# Altium integrated library TI Power Management Switching Regulator Charge Pump (Inductorless).IntLib: 239 symbols (part 3 of 14)
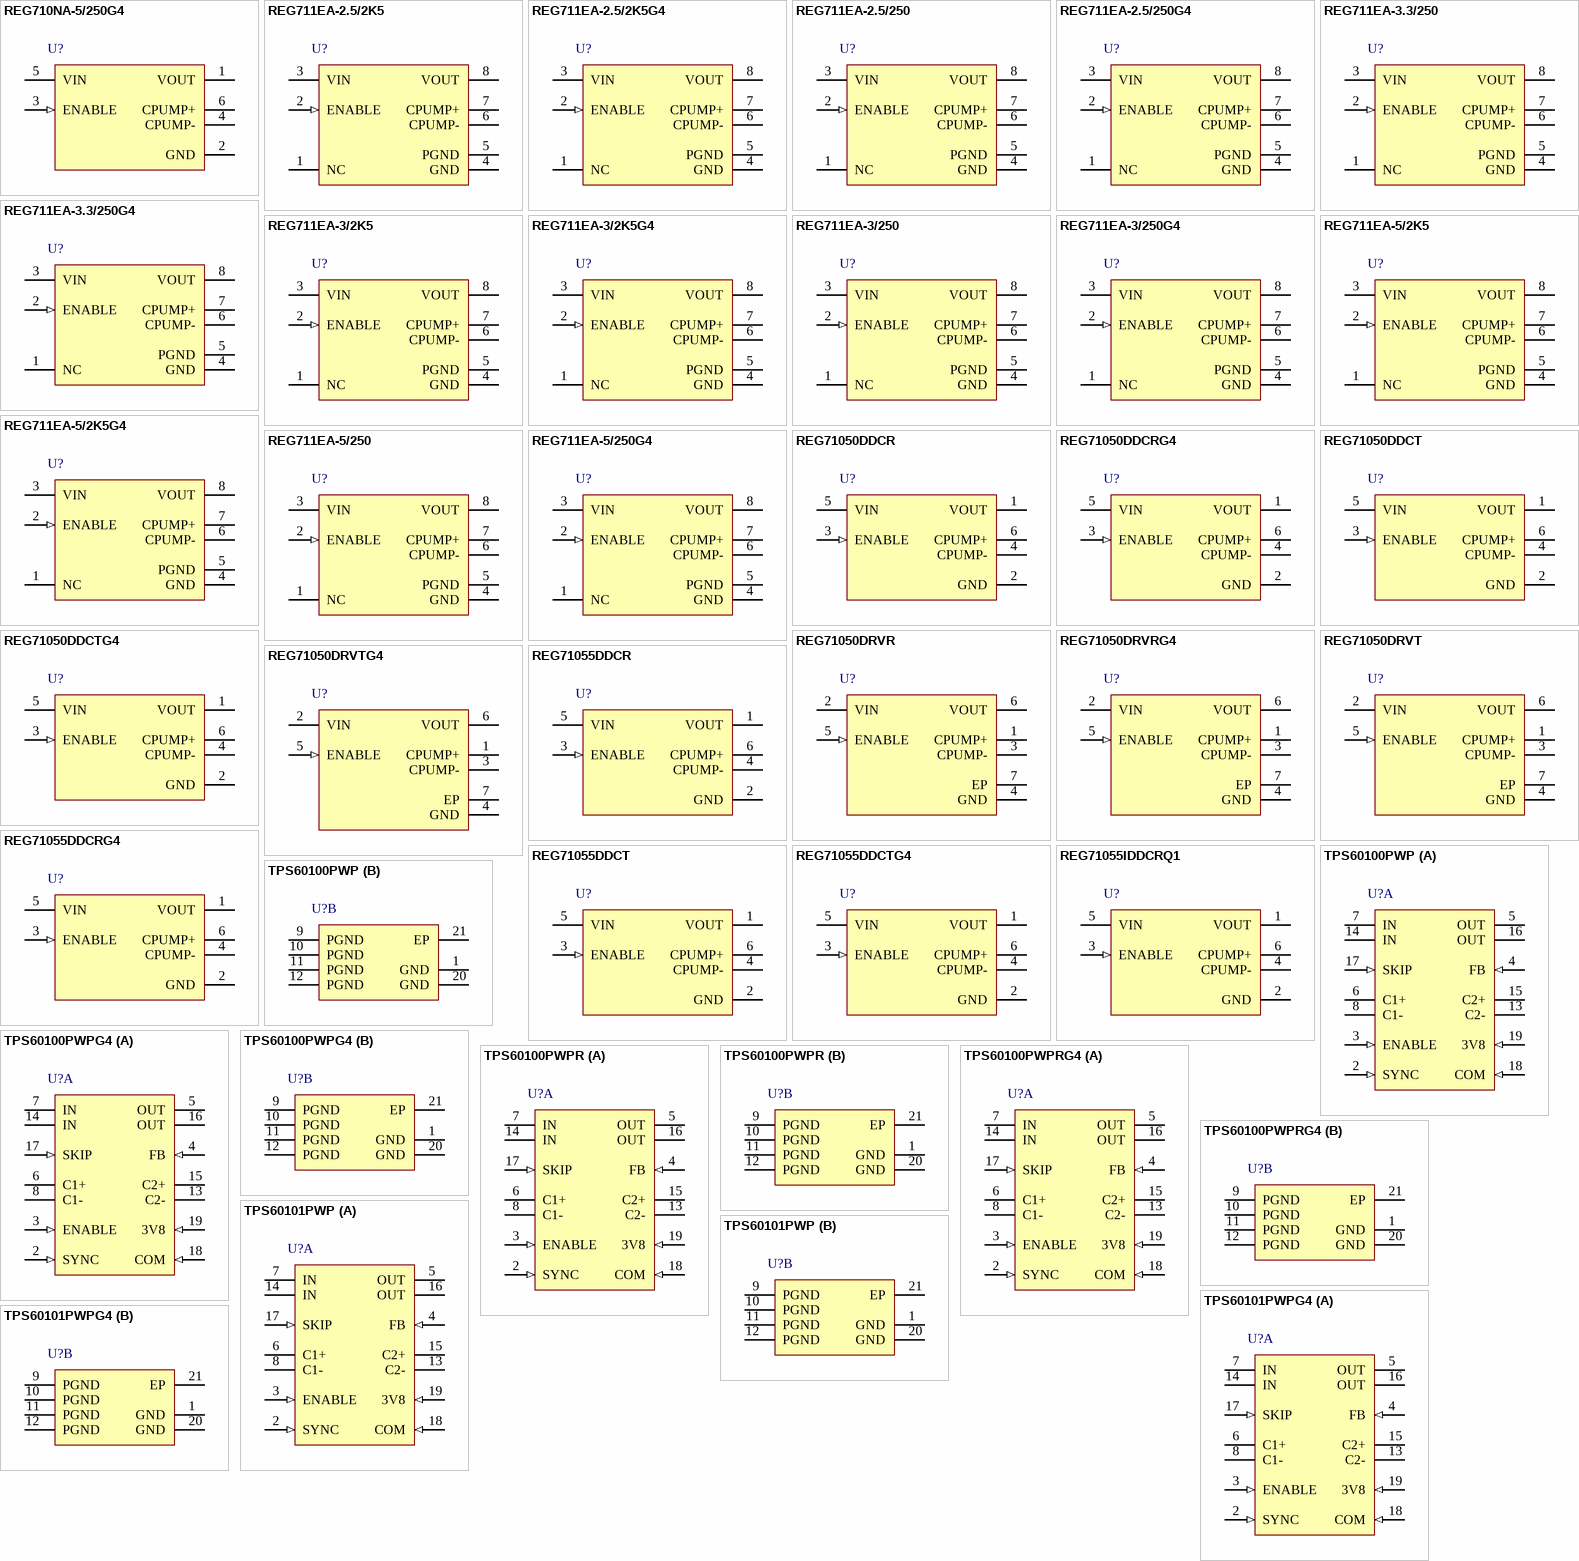
[diagram p9: symbols REG710NA-5/250G4 to TPS60101PWPG4]

## TPS60100PWPG4
designator U?
3.3 V, Boost Charge Pump, 200 mA, 1.8 to 3.6 V Input, -40 to 85 degC, 20-pin SOP (PWP20), Green (RoHS & no Sb/Br); Manufacturer: Texas Instruments; PartNumber: TPS60100PWPG4; Efficiency(Typ)(%): 70; Iout(Max)(A): 0.2; Iq(Typ)(mA): 0.05; Preset Vout(V): 3.3; Switching Frequency(Max)(kHz): 400; Vin(Max)(V): 3.6; Vin(Min)(V): 1.8; Vout(Max)(V): 3.47; Vout(Min)(V): 3.17; DatasheetVersion: SLVS213C; PackageVersion: 4073225-4/I; PackageReference: PWP20-2680X1950TP; PackageDescription: 20-Pin Plastic Small Outline, Body 6.5 x 4.4 mm, Pitch 0.65 mm; Supplier 1: Digi-Key; Supplier Part Number 1: TPS60100PWPG4-ND; Supplier 2: Mouser; Supplier Part Number 2: 595-TPS60100PWPG4; Eco-Plan: Green (RoHS & no Sb/Br); Topology: Boost; Mounting Technology: Surface Mount; Code_JEDEC: MO-153; ComponentLink1Description: Manufacturer URL; ComponentLink1URL: http://www.ti.com/; ComponentLink2Description: Datasheet; ComponentLink2URL: http://www.ti.com/general/docs/lit/getliterature.tsp?genericPartNumber=TPS60100&fileType=pdf; ComponentLink3Description: Package Specification; ComponentLink3URL: http://www.ti.com/litv/pdf/mhts001g
footprint TI-PWP20-2680X1950TP_N (SOP, 20-Leads, Body 6.4x4.4mm, Pitch 0.65mm, Thermal Pad 1.95x2.675mm, IPC Medium Density)
footprint TI-PWP20-2680X1950TP_L (SOP, 20-Leads, Body 6.4x4.4mm, Pitch 0.65mm, Thermal Pad 1.95x2.675mm, IPC High Density)
footprint TI-PWP20-2680X1950TP_M (SOP, 20-Leads, Body 6.4x4.4mm, Pitch 0.65mm, Thermal Pad 1.95x2.675mm, IPC Low Density)
part A pins: 2 SYNC (in) "Selection for external clock signal. Connect to GND to use the internally generated clock signal. Connect to IN for external synchronization. In this case, the clock signal needs to be fed through 3V8 and the device operates (See Datasheet)", 3 ENABLE (in) "ENABLE Input. The device turns off, the output disconnects from the input, and the supply current decreases to 0.05 uA when ENABLE is a logic low. ENABLE High may only be applied when VIN is inside the recommended operating (See Datasheet)", 4 FB (in) "FEEDBACK input. Connect FB to OUT as close to the load as possible to achieve best regulation. Resistive divider is on chip to match internal reference voltage of 1.22 V.", 5 OUT (power) "Regulated power output. Connect both OUTs through a short trace and bypass OUT to GND with the output filter capacitor CO. VO = 3.3 V when 3V8 = low and VO = 3.8 V when 3V8 = high.", 6 C1+ "Positive terminal of the charge-pump capacitor C1F", 7 IN (power) "Supply Input. Connect to an input supply in the 1.8-V to 3.6-V range. Bypass IN to GND with a (CO/2) uF capacitor. Connect both INs through a short trace.", 8 C1- "Negative terminal of the charge-pump capacitor C1F", 13 C2- "Negative terminal of the charge-pump capacitor C2F", 14 IN (power) "Supply Input. Connect to an input supply in the 1.8-V to 3.6-V range. Bypass IN to GND with a (CO/2) uF capacitor. Connect both INs through a short trace.", 15 C2+ "Positive terminal of the charge-pump capacitor C2F", 16 OUT (power) "Regulated power output. Connect both OUTs through a short trace and bypass OUT to GND with the output filter capacitor CO. VO = 3.3 V when 3V8 = low and VO = 3.8 V when 3V8 = high.", 17 SKIP (in) "Mode selection. When SKIP is logic low, the charge pump operates in constant-frequency mode. Output ripple and noise are minimized in this mode. When SKIP is connect to IN, the device operates in pulse skip mode. Quiescent (See Datasheet)", 18 COM (in) "Mode selection. When COM is logic low the charge pump operates in push-pull mode to minimize output ripple. When COM is connected to IN the regulator operates in single-ended mode requiring only one flying capacitor.", 19 3V8 (in) "Mode selection. When 3V8 is logic low the charge pump operates in the regulated 3.3-V mode. When 3V8 is connected to IN the regulator operates in preregulated 3.8-V mode."
part B pins: 1 GND (power) "GROUND. Analog ground for internal reference and control circuitry. Connect to PGND through a short trace.", 9 PGND (power) "PGND power ground. Charge-pump current flows through this pin. Connect all PGNDs together.", 10 PGND (power) "PGND power ground. Charge-pump current flows through this pin. Connect all PGNDs together.", 11 PGND (power) "PGND power ground. Charge-pump current flows through this pin. Connect all PGNDs together.", 12 PGND (power) "PGND power ground. Charge-pump current flows through this pin. Connect all PGNDs together.", 20 GND (power) "GROUND. Analog ground for internal reference and control circuitry. Connect to PGND through a short trace.", 21 EP "Exposed thermal pad."

## TPS60100PWPR
designator U?
3.3 V, Boost Charge Pump, 200 mA, 1.8 to 3.6 V Input, -40 to 85 degC, 20-pin SOP (PWP20), Green (RoHS & no Sb/Br); Manufacturer: Texas Instruments; PartNumber: TPS60100PWPR; Efficiency(Typ)(%): 70; Iout(Max)(A): 0.2; Iq(Typ)(mA): 0.05; Preset Vout(V): 3.3; Switching Frequency(Max)(kHz): 400; Vin(Max)(V): 3.6; Vin(Min)(V): 1.8; Vout(Max)(V): 3.47; Vout(Min)(V): 3.17; DatasheetVersion: SLVS213C; PackageVersion: 4073225-4/I; PackageReference: PWP20-2680X1950TP; PackageDescription: 20-Pin Plastic Small Outline, Body 6.5 x 4.4 mm, Pitch 0.65 mm; Supplier 1: Digi-Key; Supplier Part Number 1: 296-31985-2-ND; Supplier 2: Digi-Key; Supplier Part Number 2: 296-31985-1-ND; Supplier 3: Digi-Key; Supplier Part Number 3: 296-31985-6-ND; Supplier 4: Mouser; Supplier Part Number 4: 595-TPS60100PWPR; Eco-Plan: Green (RoHS & no Sb/Br); Topology: Boost; Mounting Technology: Surface Mount; Code_JEDEC: MO-153; ComponentLink1Description: Manufacturer URL; ComponentLink1URL: http://www.ti.com/; ComponentLink2Description: Datasheet; ComponentLink2URL: http://www.ti.com/general/docs/lit/getliterature.tsp?genericPartNumber=TPS60100&fileType=pdf; ComponentLink3Description: Package Specification; ComponentLink3URL: http://www.ti.com/litv/pdf/mhts001g
footprint TI-PWP20-2680X1950TP_N (SOP, 20-Leads, Body 6.4x4.4mm, Pitch 0.65mm, Thermal Pad 1.95x2.675mm, IPC Medium Density)
footprint TI-PWP20-2680X1950TP_L (SOP, 20-Leads, Body 6.4x4.4mm, Pitch 0.65mm, Thermal Pad 1.95x2.675mm, IPC High Density)
footprint TI-PWP20-2680X1950TP_M (SOP, 20-Leads, Body 6.4x4.4mm, Pitch 0.65mm, Thermal Pad 1.95x2.675mm, IPC Low Density)
part A pins: 2 SYNC (in) "Selection for external clock signal. Connect to GND to use the internally generated clock signal. Connect to IN for external synchronization. In this case, the clock signal needs to be fed through 3V8 and the device operates (See Datasheet)", 3 ENABLE (in) "ENABLE Input. The device turns off, the output disconnects from the input, and the supply current decreases to 0.05 uA when ENABLE is a logic low. ENABLE High may only be applied when VIN is inside the recommended operating (See Datasheet)", 4 FB (in) "FEEDBACK input. Connect FB to OUT as close to the load as possible to achieve best regulation. Resistive divider is on chip to match internal reference voltage of 1.22 V.", 5 OUT (power) "Regulated power output. Connect both OUTs through a short trace and bypass OUT to GND with the output filter capacitor CO. VO = 3.3 V when 3V8 = low and VO = 3.8 V when 3V8 = high.", 6 C1+ "Positive terminal of the charge-pump capacitor C1F", 7 IN (power) "Supply Input. Connect to an input supply in the 1.8-V to 3.6-V range. Bypass IN to GND with a (CO/2) uF capacitor. Connect both INs through a short trace.", 8 C1- "Negative terminal of the charge-pump capacitor C1F", 13 C2- "Negative terminal of the charge-pump capacitor C2F", 14 IN (power) "Supply Input. Connect to an input supply in the 1.8-V to 3.6-V range. Bypass IN to GND with a (CO/2) uF capacitor. Connect both INs through a short trace.", 15 C2+ "Positive terminal of the charge-pump capacitor C2F", 16 OUT (power) "Regulated power output. Connect both OUTs through a short trace and bypass OUT to GND with the output filter capacitor CO. VO = 3.3 V when 3V8 = low and VO = 3.8 V when 3V8 = high.", 17 SKIP (in) "Mode selection. When SKIP is logic low, the charge pump operates in constant-frequency mode. Output ripple and noise are minimized in this mode. When SKIP is connect to IN, the device operates in pulse skip mode. Quiescent (See Datasheet)", 18 COM (in) "Mode selection. When COM is logic low the charge pump operates in push-pull mode to minimize output ripple. When COM is connected to IN the regulator operates in single-ended mode requiring only one flying capacitor.", 19 3V8 (in) "Mode selection. When 3V8 is logic low the charge pump operates in the regulated 3.3-V mode. When 3V8 is connected to IN the regulator operates in preregulated 3.8-V mode."
part B pins: 1 GND (power) "GROUND. Analog ground for internal reference and control circuitry. Connect to PGND through a short trace.", 9 PGND (power) "PGND power ground. Charge-pump current flows through this pin. Connect all PGNDs together.", 10 PGND (power) "PGND power ground. Charge-pump current flows through this pin. Connect all PGNDs together.", 11 PGND (power) "PGND power ground. Charge-pump current flows through this pin. Connect all PGNDs together.", 12 PGND (power) "PGND power ground. Charge-pump current flows through this pin. Connect all PGNDs together.", 20 GND (power) "GROUND. Analog ground for internal reference and control circuitry. Connect to PGND through a short trace.", 21 EP "Exposed thermal pad."

## TPS60100PWPRG4
designator U?
3.3 V, Boost Charge Pump, 200 mA, 1.8 to 3.6 V Input, -40 to 85 degC, 20-pin SOP (PWP20), Green (RoHS & no Sb/Br); Manufacturer: Texas Instruments; PartNumber: TPS60100PWPRG4; Efficiency(Typ)(%): 70; Iout(Max)(A): 0.2; Iq(Typ)(mA): 0.05; Preset Vout(V): 3.3; Switching Frequency(Max)(kHz): 400; Vin(Max)(V): 3.6; Vin(Min)(V): 1.8; Vout(Max)(V): 3.47; Vout(Min)(V): 3.17; DatasheetVersion: SLVS213C; PackageVersion: 4073225-4/I; PackageReference: PWP20-2680X1950TP; PackageDescription: 20-Pin Plastic Small Outline, Body 6.5 x 4.4 mm, Pitch 0.65 mm; Supplier 1: Digi-Key; Supplier Part Number 1: TPS60100PWPRG4-ND; Supplier 2: Newark; Supplier Part Number 2: 33K7625; Supplier 3: Mouser; Supplier Part Number 3: 595-TPS60100PWPRG4; Eco-Plan: Green (RoHS & no Sb/Br); Topology: Boost; Mounting Technology: Surface Mount; Code_JEDEC: MO-153; ComponentLink1Description: Manufacturer URL; ComponentLink1URL: http://www.ti.com/; ComponentLink2Description: Datasheet; ComponentLink2URL: http://www.ti.com/general/docs/lit/getliterature.tsp?genericPartNumber=TPS60100&fileType=pdf; ComponentLink3Description: Package Specification; ComponentLink3URL: http://www.ti.com/litv/pdf/mhts001g
footprint TI-PWP20-2680X1950TP_N (SOP, 20-Leads, Body 6.4x4.4mm, Pitch 0.65mm, Thermal Pad 1.95x2.675mm, IPC Medium Density)
footprint TI-PWP20-2680X1950TP_L (SOP, 20-Leads, Body 6.4x4.4mm, Pitch 0.65mm, Thermal Pad 1.95x2.675mm, IPC High Density)
footprint TI-PWP20-2680X1950TP_M (SOP, 20-Leads, Body 6.4x4.4mm, Pitch 0.65mm, Thermal Pad 1.95x2.675mm, IPC Low Density)
part A pins: 2 SYNC (in) "Selection for external clock signal. Connect to GND to use the internally generated clock signal. Connect to IN for external synchronization. In this case, the clock signal needs to be fed through 3V8 and the device operates (See Datasheet)", 3 ENABLE (in) "ENABLE Input. The device turns off, the output disconnects from the input, and the supply current decreases to 0.05 uA when ENABLE is a logic low. ENABLE High may only be applied when VIN is inside the recommended operating (See Datasheet)", 4 FB (in) "FEEDBACK input. Connect FB to OUT as close to the load as possible to achieve best regulation. Resistive divider is on chip to match internal reference voltage of 1.22 V.", 5 OUT (power) "Regulated power output. Connect both OUTs through a short trace and bypass OUT to GND with the output filter capacitor CO. VO = 3.3 V when 3V8 = low and VO = 3.8 V when 3V8 = high.", 6 C1+ "Positive terminal of the charge-pump capacitor C1F", 7 IN (power) "Supply Input. Connect to an input supply in the 1.8-V to 3.6-V range. Bypass IN to GND with a (CO/2) uF capacitor. Connect both INs through a short trace.", 8 C1- "Negative terminal of the charge-pump capacitor C1F", 13 C2- "Negative terminal of the charge-pump capacitor C2F", 14 IN (power) "Supply Input. Connect to an input supply in the 1.8-V to 3.6-V range. Bypass IN to GND with a (CO/2) uF capacitor. Connect both INs through a short trace.", 15 C2+ "Positive terminal of the charge-pump capacitor C2F", 16 OUT (power) "Regulated power output. Connect both OUTs through a short trace and bypass OUT to GND with the output filter capacitor CO. VO = 3.3 V when 3V8 = low and VO = 3.8 V when 3V8 = high.", 17 SKIP (in) "Mode selection. When SKIP is logic low, the charge pump operates in constant-frequency mode. Output ripple and noise are minimized in this mode. When SKIP is connect to IN, the device operates in pulse skip mode. Quiescent (See Datasheet)", 18 COM (in) "Mode selection. When COM is logic low the charge pump operates in push-pull mode to minimize output ripple. When COM is connected to IN the regulator operates in single-ended mode requiring only one flying capacitor.", 19 3V8 (in) "Mode selection. When 3V8 is logic low the charge pump operates in the regulated 3.3-V mode. When 3V8 is connected to IN the regulator operates in preregulated 3.8-V mode."
part B pins: 1 GND (power) "GROUND. Analog ground for internal reference and control circuitry. Connect to PGND through a short trace.", 9 PGND (power) "PGND power ground. Charge-pump current flows through this pin. Connect all PGNDs together.", 10 PGND (power) "PGND power ground. Charge-pump current flows through this pin. Connect all PGNDs together.", 11 PGND (power) "PGND power ground. Charge-pump current flows through this pin. Connect all PGNDs together.", 12 PGND (power) "PGND power ground. Charge-pump current flows through this pin. Connect all PGNDs together.", 20 GND (power) "GROUND. Analog ground for internal reference and control circuitry. Connect to PGND through a short trace.", 21 EP "Exposed thermal pad."

## TPS60101PWP
designator U?
3.3 V, Boost Charge Pump, 100 mA, 1.8 to 3.6 V Input, 20-pin SOP (PWP20), Green (RoHS & no Sb/Br); Manufacturer: Texas Instruments; PartNumber: TPS60101PWP; Efficiency(Typ)(%): 70; Iout(Max)(A): 0.1; Iq(Typ)(mA): 0.05; Preset Vout(V): 3.3; Switching Frequency(Max)(kHz): 400; Synchronization Pin: TRUE; Vin(Max)(V): 3.6; Vin(Min)(V): 1.8; Vout(Max)(V): 3.47; Vout(Min)(V): 3.17; DatasheetVersion: SLVS214B; PackageVersion: 4073225-4/I; PackageReference: PWP20-2680X1950TP; PackageDescription: 20-Pin Plastic Small Outline, Body 6.5 x 4.4 mm, Pitch 0.65 mm; Supplier 1: Digi-Key; Supplier Part Number 1: 296-2264-5-ND; Supplier 2: Newark; Supplier Part Number 2: 77C0553; Supplier 3: Mouser; Supplier Part Number 3: 595-TPS60101PWP; Eco-Plan: Green (RoHS & no Sb/Br); Topology: Boost; Mounting Technology: Surface Mount; Code_JEDEC: MO-153; ComponentLink1Description: Manufacturer URL; ComponentLink1URL: http://www.ti.com/; ComponentLink2Description: Datasheet; ComponentLink2URL: http://www.ti.com/general/docs/lit/getliterature.tsp?genericPartNumber=TPS60101&fileType=pdf; ComponentLink3Description: Package Specification; ComponentLink3URL: http://www.ti.com/litv/pdf/mhts001g
footprint TI-PWP20-2680X1950TP_N (SOP, 20-Leads, Body 6.4x4.4mm, Pitch 0.65mm, Thermal Pad 1.95x2.675mm, IPC Medium Density)
footprint TI-PWP20-2680X1950TP_L (SOP, 20-Leads, Body 6.4x4.4mm, Pitch 0.65mm, Thermal Pad 1.95x2.675mm, IPC High Density)
footprint TI-PWP20-2680X1950TP_M (SOP, 20-Leads, Body 6.4x4.4mm, Pitch 0.65mm, Thermal Pad 1.95x2.675mm, IPC Low Density)
part A pins: 2 SYNC (in) "Selection for external clock signal. Connect to GND to use the internally generated clock signal. Connect to IN for external synchronization. In this case, the clock signal needs to be fed through 3V8 and the device operates (See Datasheet)", 3 ENABLE (in) "ENABLE Input. The device turns off, the output disconnects from the input, and the supply current decreases to 0.05 uA when ENABLE is a logic low. ENABLE High may only be applied when VIN is inside the recommended operating (See Datasheet)", 4 FB (in) "FEEDBACK input. Connect FB to OUT as close to the load as possible to achieve best regulation. Resistive divider is on chip to match internal reference voltage of 1.22 V.", 5 OUT (power) "Regulated power output. Connect both OUTs through a short trace and bypass OUT to GND with the output filter capacitor CO. VO = 3.3 V when 3V8 = low and VO = 3.8 V when 3V8 = high.", 6 C1+ "Positive terminal of the charge-pump capacitor C1F", 7 IN (power) "Supply Input. Connect to an input supply in the 1.8-V to 3.6-V range. Bypass IN to GND with a (CO/2) uF capacitor. Connect both INs through a short trace.", 8 C1- "Negative terminal of the charge-pump capacitor C1F", 13 C2- "Negative terminal of the charge-pump capacitor C2F", 14 IN (power) "Supply Input. Connect to an input supply in the 1.8-V to 3.6-V range. Bypass IN to GND with a (CO/2) uF capacitor. Connect both INs through a short trace.", 15 C2+ "Positive terminal of the charge-pump capacitor C2F", 16 OUT (power) "Regulated power output. Connect both OUTs through a short trace and bypass OUT to GND with the output filter capacitor CO. VO = 3.3 V when 3V8 = low and VO = 3.8 V when 3V8 = high.", 17 SKIP (in) "Mode selection. When SKIP is logic low, the charge pump operates in constant-frequency mode. Output ripple and noise are minimized in this mode. When SKIP is connect to IN, the device operates in pulse skip mode. Quiescent (See Datasheet)", 18 COM (in) "Mode selection. When COM is logic low the charge pump operates in push-pull mode to minimize output ripple. When COM is connected to IN the regulator operates in single-ended mode requiring only one flying capacitor.", 19 3V8 (in) "Mode selection. When 3V8 is logic low the charge pump operates in the regulated 3.3-V mode. When 3V8 is connected to IN the regulator operates in preregulated 3.8-V mode."
part B pins: 1 GND (power) "GROUND. Analog ground for internal reference and control circuitry. Connect to PGND through a short trace.", 9 PGND (power) "PGND power ground. Charge-pump current flows through this pin. Connect all PGNDs together.", 10 PGND (power) "PGND power ground. Charge-pump current flows through this pin. Connect all PGNDs together.", 11 PGND (power) "PGND power ground. Charge-pump current flows through this pin. Connect all PGNDs together.", 12 PGND (power) "PGND power ground. Charge-pump current flows through this pin. Connect all PGNDs together.", 20 GND (power) "GROUND. Analog ground for internal reference and control circuitry. Connect to PGND through a short trace.", 21 EP "Exposed thermal pad."

## TPS60101PWPG4
designator U?
3.3 V, Boost Charge Pump, 100 mA, 1.8 to 3.6 V Input, 20-pin SOP (PWP20), Green (RoHS & no Sb/Br); Manufacturer: Texas Instruments; PartNumber: TPS60101PWPG4; Efficiency(Typ)(%): 70; Iout(Max)(A): 0.1; Iq(Typ)(mA): 0.05; Preset Vout(V): 3.3; Switching Frequency(Max)(kHz): 400; Synchronization Pin: TRUE; Vin(Max)(V): 3.6; Vin(Min)(V): 1.8; Vout(Max)(V): 3.47; Vout(Min)(V): 3.17; DatasheetVersion: SLVS214B; PackageVersion: 4073225-4/I; PackageReference: PWP20-2680X1950TP; PackageDescription: 20-Pin Plastic Small Outline, Body 6.5 x 4.4 mm, Pitch 0.65 mm; Supplier 1: Digi-Key; Supplier Part Number 1: TPS60101PWPG4-ND; Supplier 2: Mouser; Supplier Part Number 2: 595-TPS60101PWPG4; Eco-Plan: Green (RoHS & no Sb/Br); Topology: Boost; Mounting Technology: Surface Mount; Code_JEDEC: MO-153; ComponentLink1Description: Manufacturer URL; ComponentLink1URL: http://www.ti.com/; ComponentLink2Description: Datasheet; ComponentLink2URL: http://www.ti.com/general/docs/lit/getliterature.tsp?genericPartNumber=TPS60101&fileType=pdf; ComponentLink3Description: Package Specification; ComponentLink3URL: http://www.ti.com/litv/pdf/mhts001g
footprint TI-PWP20-2680X1950TP_N (SOP, 20-Leads, Body 6.4x4.4mm, Pitch 0.65mm, Thermal Pad 1.95x2.675mm, IPC Medium Density)
footprint TI-PWP20-2680X1950TP_L (SOP, 20-Leads, Body 6.4x4.4mm, Pitch 0.65mm, Thermal Pad 1.95x2.675mm, IPC High Density)
footprint TI-PWP20-2680X1950TP_M (SOP, 20-Leads, Body 6.4x4.4mm, Pitch 0.65mm, Thermal Pad 1.95x2.675mm, IPC Low Density)
part A pins: 2 SYNC (in) "Selection for external clock signal. Connect to GND to use the internally generated clock signal. Connect to IN for external synchronization. In this case, the clock signal needs to be fed through 3V8 and the device operates (See Datasheet)", 3 ENABLE (in) "ENABLE Input. The device turns off, the output disconnects from the input, and the supply current decreases to 0.05 uA when ENABLE is a logic low. ENABLE High may only be applied when VIN is inside the recommended operating (See Datasheet)", 4 FB (in) "FEEDBACK input. Connect FB to OUT as close to the load as possible to achieve best regulation. Resistive divider is on chip to match internal reference voltage of 1.22 V.", 5 OUT (power) "Regulated power output. Connect both OUTs through a short trace and bypass OUT to GND with the output filter capacitor CO. VO = 3.3 V when 3V8 = low and VO = 3.8 V when 3V8 = high.", 6 C1+ "Positive terminal of the charge-pump capacitor C1F", 7 IN (power) "Supply Input. Connect to an input supply in the 1.8-V to 3.6-V range. Bypass IN to GND with a (CO/2) uF capacitor. Connect both INs through a short trace.", 8 C1- "Negative terminal of the charge-pump capacitor C1F", 13 C2- "Negative terminal of the charge-pump capacitor C2F", 14 IN (power) "Supply Input. Connect to an input supply in the 1.8-V to 3.6-V range. Bypass IN to GND with a (CO/2) uF capacitor. Connect both INs through a short trace.", 15 C2+ "Positive terminal of the charge-pump capacitor C2F", 16 OUT (power) "Regulated power output. Connect both OUTs through a short trace and bypass OUT to GND with the output filter capacitor CO. VO = 3.3 V when 3V8 = low and VO = 3.8 V when 3V8 = high.", 17 SKIP (in) "Mode selection. When SKIP is logic low, the charge pump operates in constant-frequency mode. Output ripple and noise are minimized in this mode. When SKIP is connect to IN, the device operates in pulse skip mode. Quiescent (See Datasheet)", 18 COM (in) "Mode selection. When COM is logic low the charge pump operates in push-pull mode to minimize output ripple. When COM is connected to IN the regulator operates in single-ended mode requiring only one flying capacitor.", 19 3V8 (in) "Mode selection. When 3V8 is logic low the charge pump operates in the regulated 3.3-V mode. When 3V8 is connected to IN the regulator operates in preregulated 3.8-V mode."
part B pins: 1 GND (power) "GROUND. Analog ground for internal reference and control circuitry. Connect to PGND through a short trace.", 9 PGND (power) "PGND power ground. Charge-pump current flows through this pin. Connect all PGNDs together.", 10 PGND (power) "PGND power ground. Charge-pump current flows through this pin. Connect all PGNDs together.", 11 PGND (power) "PGND power ground. Charge-pump current flows through this pin. Connect all PGNDs together.", 12 PGND (power) "PGND power ground. Charge-pump current flows through this pin. Connect all PGNDs together.", 20 GND (power) "GROUND. Analog ground for internal reference and control circuitry. Connect to PGND through a short trace.", 21 EP "Exposed thermal pad."

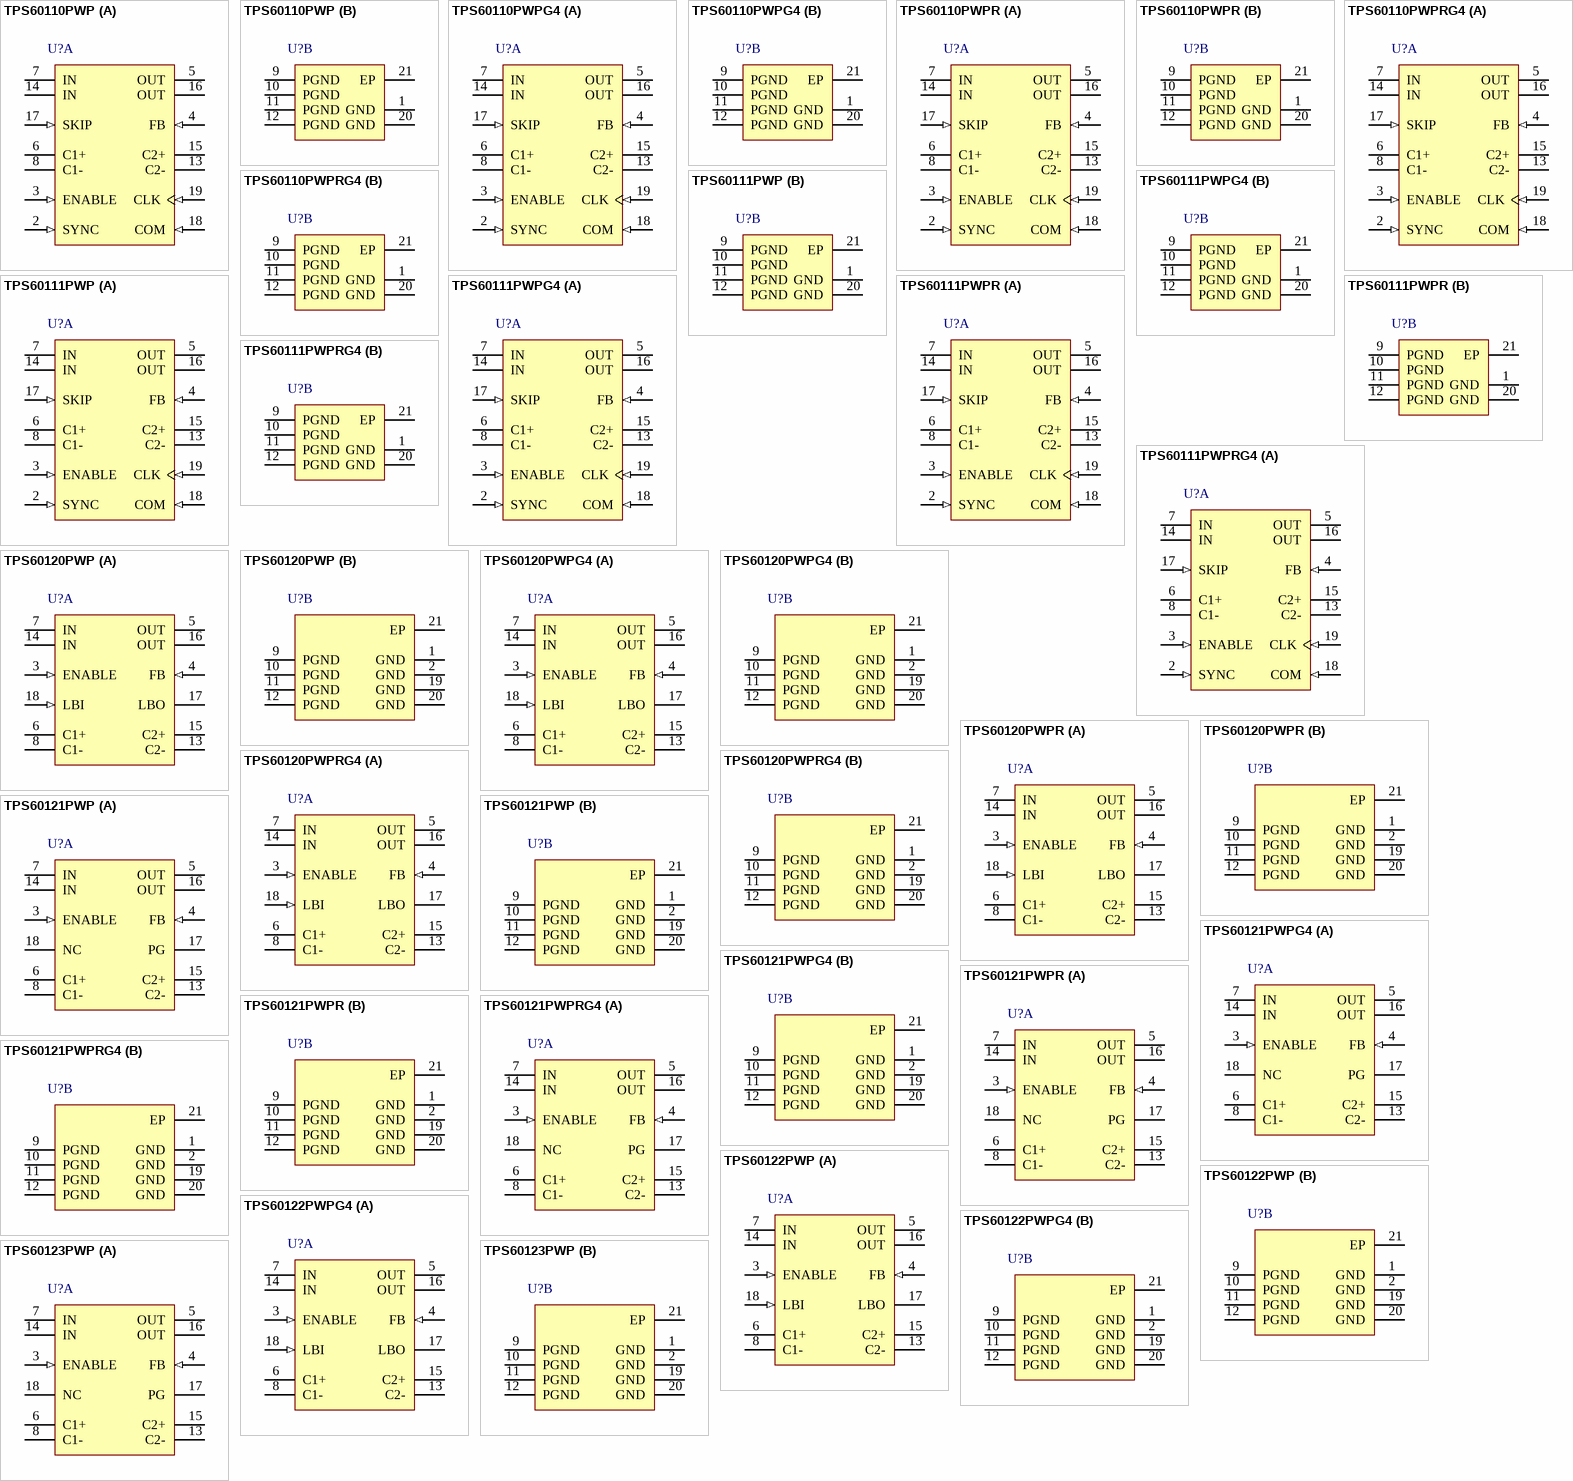
[diagram p2: symbols TPS60110PWP to TPS60123PWP]

## TPS60110PWP
designator U?
5 V, Boost Charge Pump, 300 mA, 2.7 to 5.4 V Input with Synchonrization pin, -40 to 85 degC, 20-pin SOP (PWP20), Green (RoHS & no Sb/Br); Manufacturer: Texas Instruments; PartNumber: TPS60110PWP; Efficiency(Typ)(%): 70; Iout(Max)(A): 0.3; Iq(Typ)(mA): 0.06; Preset Vout(V): 5; Switching Frequency(Max)(kHz): 400; Synchronization Pin: TRUE; Vin(Max)(V): 5.4; Vin(Min)(V): 2.7; Vout(Max)(V): 5.25; Vout(Min)(V): 4.8; DatasheetVersion: SLVS215C; PackageVersion: 4073225-4/I; PackageReference: PWP20-2680X1950TP; PackageDescription: 20-Pin Plastic Small Outline, Body 6.5 x 4.4 mm, Pitch 0.65 mm; Supplier 1: Digi-Key; Supplier Part Number 1: 296-2265-5-ND; Supplier 2: Newark; Supplier Part Number 2: 39C2228; Supplier 3: Mouser; Supplier Part Number 3: 595-TPS60110PWP; Eco-Plan: Green (RoHS & no Sb/Br); Topology: Boost; Mounting Technology: Surface Mount; Code_JEDEC: MO-153; ComponentLink1Description: Manufacturer URL; ComponentLink1URL: http://www.ti.com/; ComponentLink2Description: Datasheet; ComponentLink2URL: http://www.ti.com/general/docs/lit/getliterature.tsp?genericPartNumber=TPS60110&fileType=pdf; ComponentLink3Description: Package Specification; ComponentLink3URL: http://www.ti.com/litv/pdf/mhts001g
footprint TI-PWP20-2680X1950TP_N (SOP, 20-Leads, Body 6.4x4.4mm, Pitch 0.65mm, Thermal Pad 1.95x2.675mm, IPC Medium Density)
footprint TI-PWP20-2680X1950TP_L (SOP, 20-Leads, Body 6.4x4.4mm, Pitch 0.65mm, Thermal Pad 1.95x2.675mm, IPC High Density)
footprint TI-PWP20-2680X1950TP_M (SOP, 20-Leads, Body 6.4x4.4mm, Pitch 0.65mm, Thermal Pad 1.95x2.675mm, IPC Low Density)
part A pins: 2 SYNC (in) "Selection for external clock signal. Connect to GND to use the internally generated clock signal. Connect to IN for external synchronization. In this case, the clock signal needs to be fed through CLK.", 3 ENABLE (in) "ENABLE Input. The device turns off, the output disconnects from the input, and the supply current decreases to 0.05 uA when ENABLE is a logic low. ENABLE High may only be applied when VIN is inside the recommended operating (See Datasheet)", 4 FB (in) "FEEDBACK input. Connect FB to OUT as close to the load as possible to achieve best regulation. Resistive divider is on-chip to match internal reference voltage of 1.22 V.", 5 OUT (power) "Regulated 5-V power output. Connect both OUTs through a short trace and bypass OUT to GND with the output filter capacitor CO.", 6 C1+ "Positive terminal of the charge-pump capacitor C1F", 7 IN (power) "Supply Input. Connect to an input supply in the 2.7-V to 5.4-V range. Bypass IN to GND with a (CO/2) uF capacitor. Connect both INs through a short trace.", 8 C1- "Negative terminal of the charge-pump capacitor C1F", 13 C2- "Negative terminal of the charge-pump capacitor C2F", 14 IN (power) "Supply Input. Connect to an input supply in the 2.7-V to 5.4-V range. Bypass IN to GND with a (CO/2) uF capacitor. Connect both INs through a short trace.", 15 C2+ "Positive terminal of the charge-pump capacitor C2F", 16 OUT (power) "Regulated 5-V power output. Connect both OUTs through a short trace and bypass OUT to GND with the output filter capacitor CO.", 17 SKIP (in) "Mode selection. When SKIP is logic low, the charge pump operates in constant-frequency mode. Output ripple and noise are minimized in this mode. When SKIP is connect to IN, the device operates in pulse skip mode. Quiescent (See Datasheet)", 18 COM (in) "Mode selection. When COM is logic low the charge pump operates in push-pull mode to minimize output ripple. When COM is connected to IN the regulator operates in single-ended mode requiring only one flying capacitor.", 19 CLK (in) "Input for external clock signal. If the internal clock is used, connect this terminal to GND."
part B pins: 1 GND (power) "GROUND. Analog ground for internal reference and control circuitry. Connect to PGND through a short trace.", 9 PGND (power) "PGND power ground. Charge-pump current flows through this pin. Connect all PGNDs together.", 10 PGND (power) "PGND power ground. Charge-pump current flows through this pin. Connect all PGNDs together.", 11 PGND (power) "PGND power ground. Charge-pump current flows through this pin. Connect all PGNDs together.", 12 PGND (power) "PGND power ground. Charge-pump current flows through this pin. Connect all PGNDs together.", 20 GND (power) "GROUND. Analog ground for internal reference and control circuitry. Connect to PGND through a short trace.", 21 EP (power) "Must be soldered to achieve appropriate power dissipation. Should be connected to PGND."

## TPS60110PWPG4
designator U?
5 V, Boost Charge Pump, 300 mA, 2.7 to 5.4 V Input with Synchonrization pin, -40 to 85 degC, 20-pin SOP (PWP20), Green (RoHS & no Sb/Br); Manufacturer: Texas Instruments; PartNumber: TPS60110PWPG4; Efficiency(Typ)(%): 70; Iout(Max)(A): 0.3; Iq(Typ)(mA): 0.06; Preset Vout(V): 5; Switching Frequency(Max)(kHz): 400; Synchronization Pin: TRUE; Vin(Max)(V): 5.4; Vin(Min)(V): 2.7; Vout(Max)(V): 5.25; Vout(Min)(V): 4.8; DatasheetVersion: SLVS215C; PackageVersion: 4073225-4/I; PackageReference: PWP20-2680X1950TP; PackageDescription: 20-Pin Plastic Small Outline, Body 6.5 x 4.4 mm, Pitch 0.65 mm; Supplier 1: Digi-Key; Supplier Part Number 1: TPS60110PWPG4-ND; Supplier 2: Farnell; Supplier Part Number 2: 1207330; Supplier 3: Newark; Supplier Part Number 3: 24M8533; Supplier 4: Mouser; Supplier Part Number 4: 595-TPS60110PWPG4; Eco-Plan: Green (RoHS & no Sb/Br); Topology: Boost; Mounting Technology: Surface Mount; Code_JEDEC: MO-153; ComponentLink1Description: Manufacturer URL; ComponentLink1URL: http://www.ti.com/; ComponentLink2Description: Datasheet; ComponentLink2URL: http://www.ti.com/general/docs/lit/getliterature.tsp?genericPartNumber=TPS60110&fileType=pdf; ComponentLink3Description: Package Specification; ComponentLink3URL: http://www.ti.com/litv/pdf/mhts001g
footprint TI-PWP20-2680X1950TP_N (SOP, 20-Leads, Body 6.4x4.4mm, Pitch 0.65mm, Thermal Pad 1.95x2.675mm, IPC Medium Density)
footprint TI-PWP20-2680X1950TP_L (SOP, 20-Leads, Body 6.4x4.4mm, Pitch 0.65mm, Thermal Pad 1.95x2.675mm, IPC High Density)
footprint TI-PWP20-2680X1950TP_M (SOP, 20-Leads, Body 6.4x4.4mm, Pitch 0.65mm, Thermal Pad 1.95x2.675mm, IPC Low Density)
part A pins: 2 SYNC (in) "Selection for external clock signal. Connect to GND to use the internally generated clock signal. Connect to IN for external synchronization. In this case, the clock signal needs to be fed through CLK.", 3 ENABLE (in) "ENABLE Input. The device turns off, the output disconnects from the input, and the supply current decreases to 0.05 uA when ENABLE is a logic low. ENABLE High may only be applied when VIN is inside the recommended operating (See Datasheet)", 4 FB (in) "FEEDBACK input. Connect FB to OUT as close to the load as possible to achieve best regulation. Resistive divider is on-chip to match internal reference voltage of 1.22 V.", 5 OUT (power) "Regulated 5-V power output. Connect both OUTs through a short trace and bypass OUT to GND with the output filter capacitor CO.", 6 C1+ "Positive terminal of the charge-pump capacitor C1F", 7 IN (power) "Supply Input. Connect to an input supply in the 2.7-V to 5.4-V range. Bypass IN to GND with a (CO/2) uF capacitor. Connect both INs through a short trace.", 8 C1- "Negative terminal of the charge-pump capacitor C1F", 13 C2- "Negative terminal of the charge-pump capacitor C2F", 14 IN (power) "Supply Input. Connect to an input supply in the 2.7-V to 5.4-V range. Bypass IN to GND with a (CO/2) uF capacitor. Connect both INs through a short trace.", 15 C2+ "Positive terminal of the charge-pump capacitor C2F", 16 OUT (power) "Regulated 5-V power output. Connect both OUTs through a short trace and bypass OUT to GND with the output filter capacitor CO.", 17 SKIP (in) "Mode selection. When SKIP is logic low, the charge pump operates in constant-frequency mode. Output ripple and noise are minimized in this mode. When SKIP is connect to IN, the device operates in pulse skip mode. Quiescent (See Datasheet)", 18 COM (in) "Mode selection. When COM is logic low the charge pump operates in push-pull mode to minimize output ripple. When COM is connected to IN the regulator operates in single-ended mode requiring only one flying capacitor.", 19 CLK (in) "Input for external clock signal. If the internal clock is used, connect this terminal to GND."
part B pins: 1 GND (power) "GROUND. Analog ground for internal reference and control circuitry. Connect to PGND through a short trace.", 9 PGND (power) "PGND power ground. Charge-pump current flows through this pin. Connect all PGNDs together.", 10 PGND (power) "PGND power ground. Charge-pump current flows through this pin. Connect all PGNDs together.", 11 PGND (power) "PGND power ground. Charge-pump current flows through this pin. Connect all PGNDs together.", 12 PGND (power) "PGND power ground. Charge-pump current flows through this pin. Connect all PGNDs together.", 20 GND (power) "GROUND. Analog ground for internal reference and control circuitry. Connect to PGND through a short trace.", 21 EP (power) "Must be soldered to achieve appropriate power dissipation. Should be connected to PGND."

## TPS60110PWPR
designator U?
5 V, Boost Charge Pump, 300 mA, 2.7 to 5.4 V Input with Synchonrization pin, -40 to 85 degC, 20-pin SOP (PWP20), Green (RoHS & no Sb/Br); Manufacturer: Texas Instruments; PartNumber: TPS60110PWPR; Efficiency(Typ)(%): 70; Iout(Max)(A): 0.3; Iq(Typ)(mA): 0.06; Preset Vout(V): 5; Switching Frequency(Max)(kHz): 400; Synchronization Pin: TRUE; Vin(Max)(V): 5.4; Vin(Min)(V): 2.7; Vout(Max)(V): 5.25; Vout(Min)(V): 4.8; DatasheetVersion: SLVS215C; PackageVersion: 4073225-4/I; PackageReference: PWP20-2680X1950TP; PackageDescription: 20-Pin Plastic Small Outline, Body 6.5 x 4.4 mm, Pitch 0.65 mm; Supplier 1: Digi-Key; Supplier Part Number 1: 296-31986-2-ND; Supplier 2: Digi-Key; Supplier Part Number 2: 296-31986-1-ND; Supplier 3: Digi-Key; Supplier Part Number 3: 296-31986-6-ND; Supplier 4: Newark; Supplier Part Number 4: 77C0556; Supplier 5: Mouser; Supplier Part Number 5: 595-TPS60110PWPR; Eco-Plan: Green (RoHS & no Sb/Br); Topology: Boost; Mounting Technology: Surface Mount; Code_JEDEC: MO-153; ComponentLink1Description: Manufacturer URL; ComponentLink1URL: http://www.ti.com/; ComponentLink2Description: Datasheet; ComponentLink2URL: http://www.ti.com/general/docs/lit/getliterature.tsp?genericPartNumber=TPS60110&fileType=pdf; ComponentLink3Description: Package Specification; ComponentLink3URL: http://www.ti.com/litv/pdf/mhts001g
footprint TI-PWP20-2680X1950TP_N (SOP, 20-Leads, Body 6.4x4.4mm, Pitch 0.65mm, Thermal Pad 1.95x2.675mm, IPC Medium Density)
footprint TI-PWP20-2680X1950TP_L (SOP, 20-Leads, Body 6.4x4.4mm, Pitch 0.65mm, Thermal Pad 1.95x2.675mm, IPC High Density)
footprint TI-PWP20-2680X1950TP_M (SOP, 20-Leads, Body 6.4x4.4mm, Pitch 0.65mm, Thermal Pad 1.95x2.675mm, IPC Low Density)
part A pins: 2 SYNC (in) "Selection for external clock signal. Connect to GND to use the internally generated clock signal. Connect to IN for external synchronization. In this case, the clock signal needs to be fed through CLK.", 3 ENABLE (in) "ENABLE Input. The device turns off, the output disconnects from the input, and the supply current decreases to 0.05 uA when ENABLE is a logic low. ENABLE High may only be applied when VIN is inside the recommended operating (See Datasheet)", 4 FB (in) "FEEDBACK input. Connect FB to OUT as close to the load as possible to achieve best regulation. Resistive divider is on-chip to match internal reference voltage of 1.22 V.", 5 OUT (power) "Regulated 5-V power output. Connect both OUTs through a short trace and bypass OUT to GND with the output filter capacitor CO.", 6 C1+ "Positive terminal of the charge-pump capacitor C1F", 7 IN (power) "Supply Input. Connect to an input supply in the 2.7-V to 5.4-V range. Bypass IN to GND with a (CO/2) uF capacitor. Connect both INs through a short trace.", 8 C1- "Negative terminal of the charge-pump capacitor C1F", 13 C2- "Negative terminal of the charge-pump capacitor C2F", 14 IN (power) "Supply Input. Connect to an input supply in the 2.7-V to 5.4-V range. Bypass IN to GND with a (CO/2) uF capacitor. Connect both INs through a short trace.", 15 C2+ "Positive terminal of the charge-pump capacitor C2F", 16 OUT (power) "Regulated 5-V power output. Connect both OUTs through a short trace and bypass OUT to GND with the output filter capacitor CO.", 17 SKIP (in) "Mode selection. When SKIP is logic low, the charge pump operates in constant-frequency mode. Output ripple and noise are minimized in this mode. When SKIP is connect to IN, the device operates in pulse skip mode. Quiescent (See Datasheet)", 18 COM (in) "Mode selection. When COM is logic low the charge pump operates in push-pull mode to minimize output ripple. When COM is connected to IN the regulator operates in single-ended mode requiring only one flying capacitor.", 19 CLK (in) "Input for external clock signal. If the internal clock is used, connect this terminal to GND."
part B pins: 1 GND (power) "GROUND. Analog ground for internal reference and control circuitry. Connect to PGND through a short trace.", 9 PGND (power) "PGND power ground. Charge-pump current flows through this pin. Connect all PGNDs together.", 10 PGND (power) "PGND power ground. Charge-pump current flows through this pin. Connect all PGNDs together.", 11 PGND (power) "PGND power ground. Charge-pump current flows through this pin. Connect all PGNDs together.", 12 PGND (power) "PGND power ground. Charge-pump current flows through this pin. Connect all PGNDs together.", 20 GND (power) "GROUND. Analog ground for internal reference and control circuitry. Connect to PGND through a short trace.", 21 EP (power) "Must be soldered to achieve appropriate power dissipation. Should be connected to PGND."

## TPS60110PWPRG4
designator U?
5 V, Boost Charge Pump, 300 mA, 2.7 to 5.4 V Input with Synchonrization pin, -40 to 85 degC, 20-pin SOP (PWP20), Green (RoHS & no Sb/Br); Manufacturer: Texas Instruments; PartNumber: TPS60110PWPRG4; Efficiency(Typ)(%): 70; Iout(Max)(A): 0.3; Iq(Typ)(mA): 0.06; Preset Vout(V): 5; Switching Frequency(Max)(kHz): 400; Synchronization Pin: TRUE; Vin(Max)(V): 5.4; Vin(Min)(V): 2.7; Vout(Max)(V): 5.25; Vout(Min)(V): 4.8; DatasheetVersion: SLVS215C; PackageVersion: 4073225-4/I; PackageReference: PWP20-2680X1950TP; PackageDescription: 20-Pin Plastic Small Outline, Body 6.5 x 4.4 mm, Pitch 0.65 mm; Supplier 1: Digi-Key; Supplier Part Number 1: TPS60110PWPRG4-ND; Supplier 2: Newark; Supplier Part Number 2: 08K4961; Supplier 3: Mouser; Supplier Part Number 3: 595-TPS60110PWPRG4; Eco-Plan: Green (RoHS & no Sb/Br); Topology: Boost; Mounting Technology: Surface Mount; Code_JEDEC: MO-153; ComponentLink1Description: Manufacturer URL; ComponentLink1URL: http://www.ti.com/; ComponentLink2Description: Datasheet; ComponentLink2URL: http://www.ti.com/general/docs/lit/getliterature.tsp?genericPartNumber=TPS60110&fileType=pdf; ComponentLink3Description: Package Specification; ComponentLink3URL: http://www.ti.com/litv/pdf/mhts001g
footprint TI-PWP20-2680X1950TP_N (SOP, 20-Leads, Body 6.4x4.4mm, Pitch 0.65mm, Thermal Pad 1.95x2.675mm, IPC Medium Density)
footprint TI-PWP20-2680X1950TP_L (SOP, 20-Leads, Body 6.4x4.4mm, Pitch 0.65mm, Thermal Pad 1.95x2.675mm, IPC High Density)
footprint TI-PWP20-2680X1950TP_M (SOP, 20-Leads, Body 6.4x4.4mm, Pitch 0.65mm, Thermal Pad 1.95x2.675mm, IPC Low Density)
part A pins: 2 SYNC (in) "Selection for external clock signal. Connect to GND to use the internally generated clock signal. Connect to IN for external synchronization. In this case, the clock signal needs to be fed through CLK.", 3 ENABLE (in) "ENABLE Input. The device turns off, the output disconnects from the input, and the supply current decreases to 0.05 uA when ENABLE is a logic low. ENABLE High may only be applied when VIN is inside the recommended operating (See Datasheet)", 4 FB (in) "FEEDBACK input. Connect FB to OUT as close to the load as possible to achieve best regulation. Resistive divider is on-chip to match internal reference voltage of 1.22 V.", 5 OUT (power) "Regulated 5-V power output. Connect both OUTs through a short trace and bypass OUT to GND with the output filter capacitor CO.", 6 C1+ "Positive terminal of the charge-pump capacitor C1F", 7 IN (power) "Supply Input. Connect to an input supply in the 2.7-V to 5.4-V range. Bypass IN to GND with a (CO/2) uF capacitor. Connect both INs through a short trace.", 8 C1- "Negative terminal of the charge-pump capacitor C1F", 13 C2- "Negative terminal of the charge-pump capacitor C2F", 14 IN (power) "Supply Input. Connect to an input supply in the 2.7-V to 5.4-V range. Bypass IN to GND with a (CO/2) uF capacitor. Connect both INs through a short trace.", 15 C2+ "Positive terminal of the charge-pump capacitor C2F", 16 OUT (power) "Regulated 5-V power output. Connect both OUTs through a short trace and bypass OUT to GND with the output filter capacitor CO.", 17 SKIP (in) "Mode selection. When SKIP is logic low, the charge pump operates in constant-frequency mode. Output ripple and noise are minimized in this mode. When SKIP is connect to IN, the device operates in pulse skip mode. Quiescent (See Datasheet)", 18 COM (in) "Mode selection. When COM is logic low the charge pump operates in push-pull mode to minimize output ripple. When COM is connected to IN the regulator operates in single-ended mode requiring only one flying capacitor.", 19 CLK (in) "Input for external clock signal. If the internal clock is used, connect this terminal to GND."
part B pins: 1 GND (power) "GROUND. Analog ground for internal reference and control circuitry. Connect to PGND through a short trace.", 9 PGND (power) "PGND power ground. Charge-pump current flows through this pin. Connect all PGNDs together.", 10 PGND (power) "PGND power ground. Charge-pump current flows through this pin. Connect all PGNDs together.", 11 PGND (power) "PGND power ground. Charge-pump current flows through this pin. Connect all PGNDs together.", 12 PGND (power) "PGND power ground. Charge-pump current flows through this pin. Connect all PGNDs together.", 20 GND (power) "GROUND. Analog ground for internal reference and control circuitry. Connect to PGND through a short trace.", 21 EP (power) "Must be soldered to achieve appropriate power dissipation. Should be connected to PGND."

## TPS60111PWP
designator U?
5 V, Boost Charge Pump, 150 mA, 2.7 to 5.4 V Input with Synchonrization Pin, -40 to 85 degC, 20-pin SOP (PWP20), Green (RoHS & no Sb/Br); Manufacturer: Texas Instruments; PartNumber: TPS60111PWP; Efficiency(Typ)(%): 70; Iout(Max)(A): 0.15; Iq(Typ)(mA): 0.06; Preset Vout(V): 5; Switching Frequency(Max)(kHz): 400; Synchronization Pin: TRUE; Vin(Max)(V): 5.4; Vin(Min)(V): 2.7; Vout(Max)(V): 5.2; Vout(Min)(V): 4.8; DatasheetVersion: SLVS216B; PackageVersion: 4073225-4/I; PackageReference: PWP20-2680X1950TP; PackageDescription: 20-Pin Plastic Small Outline, Body 6.5 x 4.4 mm, Pitch 0.65 mm; Supplier 1: Digi-Key; Supplier Part Number 1: 296-2266-5-ND; Supplier 2: Newark; Supplier Part Number 2: 77C0557; Supplier 3: Mouser; Supplier Part Number 3: 595-TPS60111PWP; Eco-Plan: Green (RoHS & no Sb/Br); Topology: Boost; Mounting Technology: Surface Mount; Code_JEDEC: MO-153; ComponentLink1Description: Manufacturer URL; ComponentLink1URL: http://www.ti.com/; ComponentLink2Description: Datasheet; ComponentLink2URL: http://www.ti.com/general/docs/lit/getliterature.tsp?genericPartNumber=TPS60111&fileType=pdf; ComponentLink3Description: Package Specification; ComponentLink3URL: http://www.ti.com/litv/pdf/mhts001g
footprint TI-PWP20-2680X1950TP_N (SOP, 20-Leads, Body 6.4x4.4mm, Pitch 0.65mm, Thermal Pad 1.95x2.675mm, IPC Medium Density)
footprint TI-PWP20-2680X1950TP_L (SOP, 20-Leads, Body 6.4x4.4mm, Pitch 0.65mm, Thermal Pad 1.95x2.675mm, IPC High Density)
footprint TI-PWP20-2680X1950TP_M (SOP, 20-Leads, Body 6.4x4.4mm, Pitch 0.65mm, Thermal Pad 1.95x2.675mm, IPC Low Density)
part A pins: 2 SYNC (in) "Selection for external clock signal. Connect to GND to use the internally generated clock signal. Connect to IN for external synchronization. In this case, the clock signal needs to be fed through CLK.", 3 ENABLE (in) "ENABLE Input. The device turns off, the output disconnects from the input, and the supply current decreases to 0.05 uA when ENABLE is a logic low. ENABLE high may only be applied when VIN is inside the recommended operating (See Datasheet)", 4 FB (in) "FEEDBACK input. Connect FB to OUT as close to the load as possible to achieve best regulation. Resistive divider is on-chip to match internal reference voltage of 1.22 V.", 5 OUT (power) "Regulated 5-V power output. Connect both OUTs through a short trace and bypass OUT to GND with the output filter capacitor CO.", 6 C1+ "Positive terminal of the charge-pump capacitor C1F", 7 IN (power) "Supply Input. Connect to an input supply in the 2.7-V to 5.4-V range. Bypass IN to GND with a (CO/2) uF capacitor. Connect both INs through a short trace.", 8 C1- "Negative terminal of the charge-pump capacitor C1F", 13 C2- "Negative terminal of the charge-pump capacitor C2F", 14 IN (power) "Supply Input. Connect to an input supply in the 2.7-V to 5.4-V range. Bypass IN to GND with a (CO/2) uF capacitor. Connect both INs through a short trace.", 15 C2+ "Positive terminal of the charge-pump capacitor C2F", 16 OUT (power) "Regulated 5-V power output. Connect both OUTs through a short trace and bypass OUT to GND with the output filter capacitor CO.", 17 SKIP (in) "Mode selection. When SKIP is logic low the charge pump operates in constant-frequency mode. Thus output ripple and noise are minimized. When SKIP is connected to IN, the regulator operates in low-quiescent-current pulse-skip (See Datasheet)", 18 COM (in) "Mode selection. When COM is logic low the charge pump operates in push-pull mode to minimize output ripple. When COM is connected to IN the regulator operates in single-ended mode requiring only one flying capacitor.", 19 CLK (in) "Input for external clock signal. If the internal clock is used, connect this terminal to GND."
part B pins: 1 GND (power) "GROUND. Analog ground for internal reference and control circuitry. Connect to PGND through a short trace.", 9 PGND (power) "PGND power ground. Charge-pump current flows through this pin. Connect all PGNDs together.", 10 PGND (power) "PGND power ground. Charge-pump current flows through this pin. Connect all PGNDs together.", 11 PGND (power) "PGND power ground. Charge-pump current flows through this pin. Connect all PGNDs together.", 12 PGND (power) "PGND power ground. Charge-pump current flows through this pin. Connect all PGNDs together.", 20 GND (power) "GROUND. Analog ground for internal reference and control circuitry. Connect to PGND through a short trace.", 21 EP "Exposed thermal pad."